# EAGLE library part NUCLEO-F411RE (library NUCLEO-F411RE)
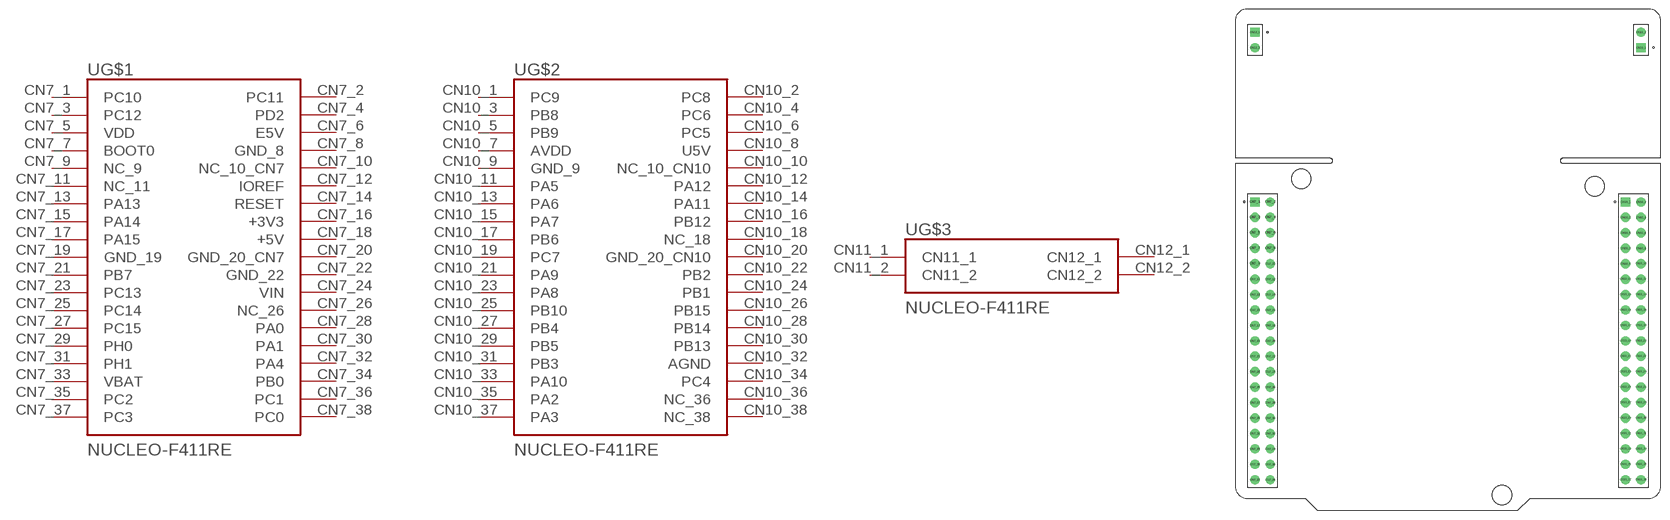
[diagram p0: symbol with the pads of BOARD_NUCLEO-F411RE; footprint BOARD_NUCLEO-F411RE]

Designator prefix U; gates G$1=NUCLEO-F411RE_CN7 G$2=NUCLEO-F411RE_CN10 G$3=NUCLEO-F411RE_CN11_CN12

## NUCLEO-F411RE (Check_prices: https://www.snapeda.com/parts/NUCLEO-F411RE/STMicroelectronics/view-part/?ref=eda; Description: STM32F411RE, mbed-Enabled Development Nucleo-64 STM32F4 ARM® Cortex®-M4 MCU 32-Bit Embedded Evaluation Board; DigiKey_Part_Number: 497-14711-ND; MF: STMicroelectronics; MP: NUCLEO-F411RE; Package: None; SnapEDA_Link: https://www.snapeda.com/parts/NUCLEO-F411RE/STMicroelectronics/view-part/?ref=snap)  [BOARD_NUCLEO-F411RE]
CN7_1  G$1:PC10
CN7_2  G$1:PC11
CN7_3  G$1:PC12
CN7_4  G$1:PD2
CN7_5  G$1:VDD  pwr
CN7_6  G$1:E5V  pwr
CN7_7  G$1:BOOT0
CN7_8  G$1:GND_8  pwr
CN7_9  G$1:NC_9  nc
CN7_10  G$1:NC_10_CN7  nc
CN7_11  G$1:NC_11  nc
CN7_12  G$1:IOREF
CN7_13  G$1:PA13
CN7_14  G$1:RESET
CN7_15  G$1:PA14
CN7_16  G$1:+3V3  pwr
CN7_17  G$1:PA15
CN7_18  G$1:+5V  pwr
CN7_19  G$1:GND_19  pwr
CN7_20  G$1:GND_20_CN7  pwr
CN7_21  G$1:PB7
CN7_22  G$1:GND_22  pwr
CN7_23  G$1:PC13
CN7_24  G$1:VIN
CN7_25  G$1:PC14
CN7_26  G$1:NC_26  nc
CN7_27  G$1:PC15
CN7_28  G$1:PA0
CN7_29  G$1:PH0
CN7_30  G$1:PA1
CN7_31  G$1:PH1
CN7_32  G$1:PA4
CN7_33  G$1:VBAT  pwr
CN7_34  G$1:PB0
CN7_35  G$1:PC2
CN7_36  G$1:PC1
CN7_37  G$1:PC3
CN7_38  G$1:PC0
CN10_1  G$2:PC9
CN10_2  G$2:PC8
CN10_3  G$2:PB8
CN10_4  G$2:PC6
CN10_5  G$2:PB9
CN10_6  G$2:PC5
CN10_7  G$2:AVDD  pwr
CN10_8  G$2:U5V  pwr
CN10_9  G$2:GND_9  pwr
CN10_10  G$2:NC_10_CN10  nc
CN10_11  G$2:PA5
CN10_12  G$2:PA12
CN10_13  G$2:PA6
CN10_14  G$2:PA11
CN10_15  G$2:PA7
CN10_16  G$2:PB12
CN10_17  G$2:PB6
CN10_18  G$2:NC_18  nc
CN10_19  G$2:PC7
CN10_20  G$2:GND_20_CN10  pwr
CN10_21  G$2:PA9
CN10_22  G$2:PB2
CN10_23  G$2:PA8
CN10_24  G$2:PB1
CN10_25  G$2:PB10
CN10_26  G$2:PB15
CN10_27  G$2:PB4
CN10_28  G$2:PB14
CN10_29  G$2:PB5
CN10_30  G$2:PB13
CN10_31  G$2:PB3
CN10_32  G$2:AGND  pwr
CN10_33  G$2:PA10
CN10_34  G$2:PC4
CN10_35  G$2:PA2
CN10_36  G$2:NC_36  nc
CN10_37  G$2:PA3
CN10_38  G$2:NC_38  nc
CN11_1  G$3:CN11_1  pas
CN11_2  G$3:CN11_2  pas
CN12_1  G$3:CN12_1  pas
CN12_2  G$3:CN12_2  pas

## Footprint BOARD_NUCLEO-F411RE (pad centres in mm)
drill 1.02 square: CN7_1 -31.75,9.51; CN10_1 29.21,9.51; CN11_1 31.75,34.91; CN12_1 -31.75,37.45
drill 1.02: CN7_2 -29.21,9.51; CN7_3 -31.75,6.97; CN7_4 -29.21,6.97; CN7_5 -31.75,4.43; CN7_6 -29.21,4.43; CN7_7 -31.75,1.89; CN7_8 -29.21,1.89; CN7_9 -31.75,-0.65; CN7_10 -29.21,-0.65; CN7_11 -31.75,-3.19; CN7_12 -29.21,-3.19; CN7_13 -31.75,-5.73; CN7_14 -29.21,-5.73; CN7_15 -31.75,-8.27; CN7_16 -29.21,-8.27; CN7_17 -31.75,-10.81; CN7_18 -29.21,-10.81; CN7_19 -31.75,-13.35; CN7_20 -29.21,-13.35; CN7_21 -31.75,-15.89; CN7_22 -29.21,-15.89; CN7_23 -31.75,-18.43; CN7_24 -29.21,-18.43; CN7_25 -31.75,-20.97; CN7_26 -29.21,-20.97; CN7_27 -31.75,-23.51; CN7_28 -29.21,-23.51; CN7_29 -31.75,-26.05; CN7_30 -29.21,-26.05; CN7_31 -31.75,-28.59; CN7_32 -29.21,-28.59; CN7_33 -31.75,-31.13; CN7_34 -29.21,-31.13; CN7_35 -31.75,-33.67; CN7_36 -29.21,-33.67; CN7_37 -31.75,-36.21; CN7_38 -29.21,-36.21; CN10_2 31.75,9.51; CN10_3 29.21,6.97; CN10_4 31.75,6.97; CN10_5 29.21,4.43; CN10_6 31.75,4.43; CN10_7 29.21,1.89; CN10_8 31.75,1.89; CN10_9 29.21,-0.65; CN10_10 31.75,-0.65; CN10_11 29.21,-3.19; CN10_12 31.75,-3.19; CN10_13 29.21,-5.73; CN10_14 31.75,-5.73; CN10_15 29.21,-8.27; CN10_16 31.75,-8.27; CN10_17 29.21,-10.81; CN10_18 31.75,-10.81; CN10_19 29.21,-13.35; CN10_20 31.75,-13.35; CN10_21 29.21,-15.89; CN10_22 31.75,-15.89; CN10_23 29.21,-18.43; CN10_24 31.75,-18.43; CN10_25 29.21,-20.97; CN10_26 31.75,-20.97; CN10_27 29.21,-23.51; CN10_28 31.75,-23.51; CN10_29 29.21,-26.05; CN10_30 31.75,-26.05; CN10_31 29.21,-28.59; CN10_32 31.75,-28.59; CN10_33 29.21,-31.13; CN10_34 31.75,-31.13; CN10_35 29.21,-33.67; CN10_36 31.75,-33.67; CN10_37 29.21,-36.21; CN10_38 31.75,-36.21; CN11_2 31.75,37.45; CN12_2 -31.75,34.91
hole 3.2 at 8.89,-38.75
hole 3.2 at 24.13,12.05
hole 3.2 at -24.13,13.32